# Altium schematic symbol library KEY1.SchLib: 1 symbol
Pins are listed as number, name and electrical type; pins without a type are passive.

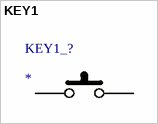
[diagram p0: symbol KEY1]

## KEY1
designator KEY1_?
KEY1
footprint KEY1
pins: 0 1, 1 3